# Altium integrated library RV-8523-C3.IntLib: 1 symbol
Pins are listed as number, name and electrical type; pins without a type are passive.

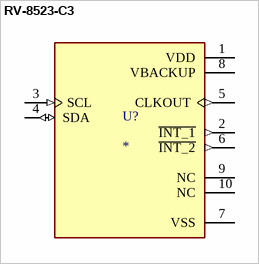
[diagram p0: symbol RV-8523-C3]

## RV-8523-C3
designator U?
MP: RV-8523-C3; Package: None; Value: *; Availability: Unavailable; Price: None
footprint IC_RV-8523-C3
pins: 1 VDD (power), 2 ~{INT_1} (out), 3 SCL (in), 4 SDA (io), 5 CLKOUT (out), 6 ~{INT_2} (out), 7 VSS (power), 8 VBACKUP (power), 9 NC, 10 NC